# Altium footprint library GRM3195C1H113JA01D.PcbLib: 1 footprints
Each footprint in its own frame and in the unit in brackets; x right, y up, seen from the top. Pads: shape width x height; smd on the part's side, far side on the other; paste and mask are expansions set on the pad; w line width, h text height; cw(c..) or ccw(c..) is an arc to the next point about the centre after c.
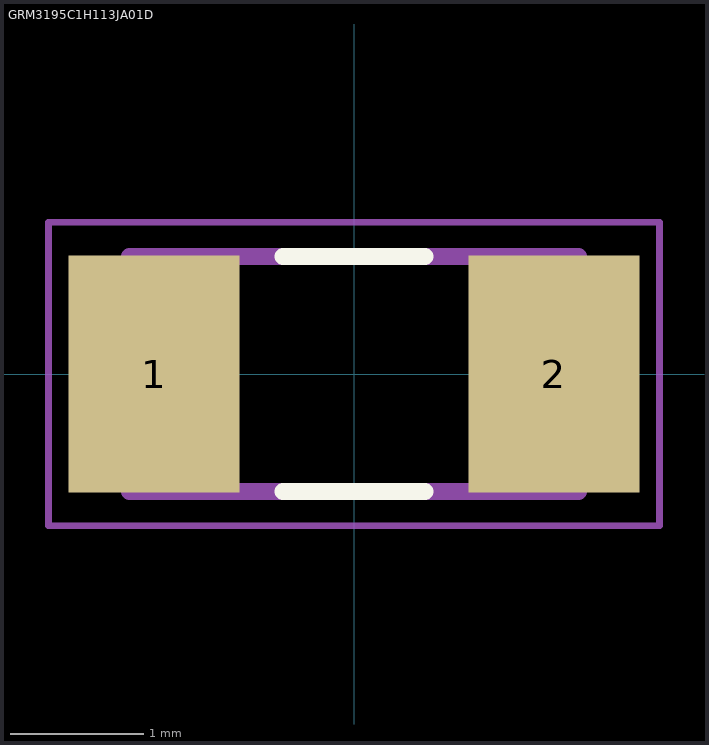
[diagram p0: the footprint, top view; thin cyan lines are the x and y axes]

## GRM3195C1H113JA01D [mm]
pads (2):
  rect 1.28x1.77 smd: 1(-1.495,0) 2(1.495,0)
Top Overlay:
  lines w0.127: -0.53,-0.88 0.53,-0.88 ; -0.53,0.88 0.53,0.88
Mechanical 13:
  lines w0.127: -1.68,-0.88 -1.68,0.88 1.68,0.88 1.68,-0.88 -1.68,-0.88
Mechanical 15:
  lines w0.05: -2.285,-1.135 -2.285,1.135 2.285,1.135 2.285,-1.135 -2.285,-1.135
3D body "GRM3195C1H113JA01D.STEP": height 0.95, standoff 0, extent -1.6,-0.8 1.6,0.8